# EAGLE library part MICROSD-DM3AT-SF-PEJM5 (library MotoRecoPico)
Hirose DM3AT-SF-PEJM5 microSD socket, push-push, card detect, 0.5A, 10000 cycles. Hand soldering is supported by Hirose (iron 350C for 3s). SPI mode wiring: CD_DAT3=CS, CMD=MOSI, CLK=SCK, DAT0=MISO, VDD=3.3V, VSS=GND. DAT1 and DAT2 are unused in SPI mode but should be pulled up per the SD spec. Card detect switch is normally open and closes when a card is inserted. The six auxiliary pads (TL, TR, L1, L2, L3, BR) are the stainless cover ground legs plus the two card-detect switch terminals. From the Hirose drawing the switch is most likely TR (drawing calls out card-detect(B) at the right end of the contact row) and BR (card-detect(A) on the lower right flank); the remaining four are ground legs. VERIFY WITH A CONTINUITY CHECK before committing the schematic: the two switch pads are the pair that goes from open to shorted when a card is inserted. Everything else goes to GND.
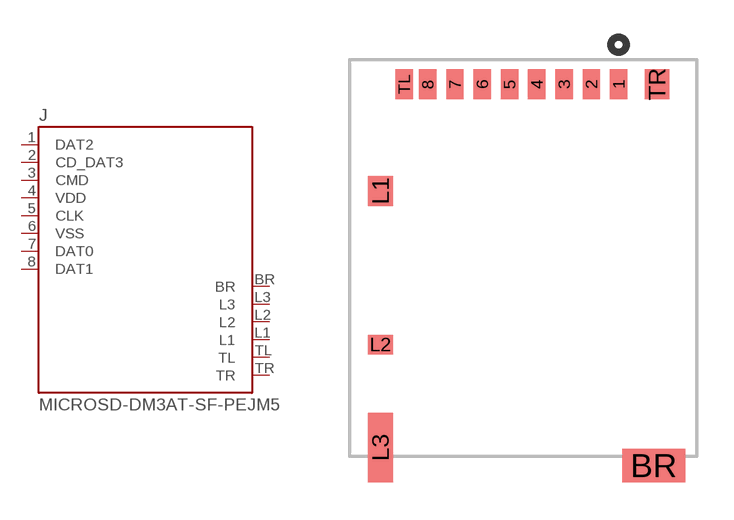
[diagram p3: symbol with the pads of MICROSD-DM3AT; footprint MICROSD-DM3AT]

Designator prefix J

## MICROSD-DM3AT-SF-PEJM5  [MICROSD-DM3AT]
1  DAT2
2  CD_DAT3
3  CMD
4  VDD  pwr
5  CLK
6  VSS  pwr
7  DAT0
8  DAT1
BR  BR  pas
L1  L1  pas
L2  L2  pas
L3  L3  pas
TL  TL  pas
TR  TR  pas

## Footprint MICROSD-DM3AT (pad centres in mm)
Hirose DM3AT-SF-PEJM5 microSD socket, push-push, SMT right angle. Land pattern taken from the Hirose official 2D drawing ADC-325165-00-01 (recommended PCB pattern, mounting-surface side view). Scale was recovered from the drawing vector geometry and cross-checked against four independent dimensions: pitch 1.1, 8-pad span 7.7, pad width 0.7, pad height 1.2. Signal pads 1-8: 0.70 x 1.20mm, 1.1mm pitch, pad 1 at X=+3.85 (next to pad TR). Six auxiliary pads are named by position, not by function - see the deviceset description. Confirm with a continuity check on the physical part before ordering. Keep-out (hatched) regions from the drawing are NOT yet modelled - do not flood copper close to the body until they are added.
smd 0.7 x 1.2: 1 3.85,0; 2 2.75,0; 3 1.65,0; 4 0.55,0; 5 -0.55,0; 6 -1.65,0; 7 -2.75,0; 8 -3.85,0; TL -4.8,0
smd 2.55 x 1.36: BR 5.27,-15.37
smd 1 x 1.2: L1 -5.75,-4.3; TR 5.4,0
smd 1 x 0.8: L2 -5.75,-10.5
smd 1 x 2.8: L3 -5.75,-14.65